# EAGLE library part BSS-025-XX-X-D-A (library samtec)
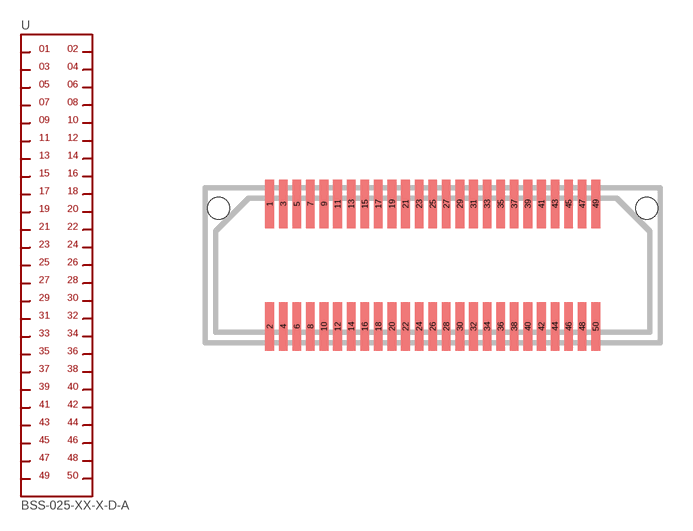
[diagram p22: symbol with the pads of BSS-025-XX-X-D-A; footprint BSS-025-XX-X-D-A]

Designator prefix -

## BSS-025-XX-X-D-A  [BSS-025-XX-X-D-A]
1  1
2  2
3  3
4  4
5  5
6  6
7  7
8  8
9  9
10  10
11  11
12  12
13  13
14  14
15  15
16  16
17  17
18  18
19  19
20  20
21  21
22  22
23  23
24  24
25  25
26  26
27  27
28  28
29  29
30  30
31  31
32  32
33  33
34  34
35  35
36  36
37  37
38  38
39  39
40  40
41  41
42  42
43  43
44  44
45  45
46  46
47  47
48  48
49  49
50  50

## Footprint BSS-025-XX-X-D-A (pad centres in mm)
PCB Matrix Packages
smd 0.406 x 2.273: 1 -7.62,2.864; 2 -7.62,-2.864; 3 -6.985,2.864; 4 -6.985,-2.864; 5 -6.35,2.864; 6 -6.35,-2.864; 7 -5.715,2.864; 8 -5.715,-2.864; 9 -5.08,2.864; 10 -5.08,-2.864; 11 -4.445,2.864; 12 -4.445,-2.864; 13 -3.81,2.864; 14 -3.81,-2.864; 15 -3.175,2.864; 16 -3.175,-2.864; 17 -2.54,2.864; 18 -2.54,-2.864; 19 -1.905,2.864; 20 -1.905,-2.864; 21 -1.27,2.864; 22 -1.27,-2.864; 23 -0.635,2.864; 24 -0.635,-2.864; 25 0,2.864; 26 0,-2.864; 27 0.635,2.864; 28 0.635,-2.864; 29 1.27,2.864; 30 1.27,-2.864; 31 1.905,2.864; 32 1.905,-2.864; 33 2.54,2.864; 34 2.54,-2.864; 35 3.175,2.864; 36 3.175,-2.864; 37 3.81,2.864; 38 3.81,-2.864; 39 4.445,2.864; 40 4.445,-2.864; 41 5.08,2.864; 42 5.08,-2.864; 43 5.715,2.864; 44 5.715,-2.864; 45 6.35,2.864; 46 6.35,-2.864; 47 6.985,2.864; 48 6.985,-2.864; 49 7.62,2.864; 50 7.62,-2.864
hole 1.016 at -10.008,2.667
hole 1.016 at 10.008,2.667